# Altium integrated library Analog Devices Data Converters Analog-to-Digital Converters.IntLib: 2404 symbols (part 164 of 346)
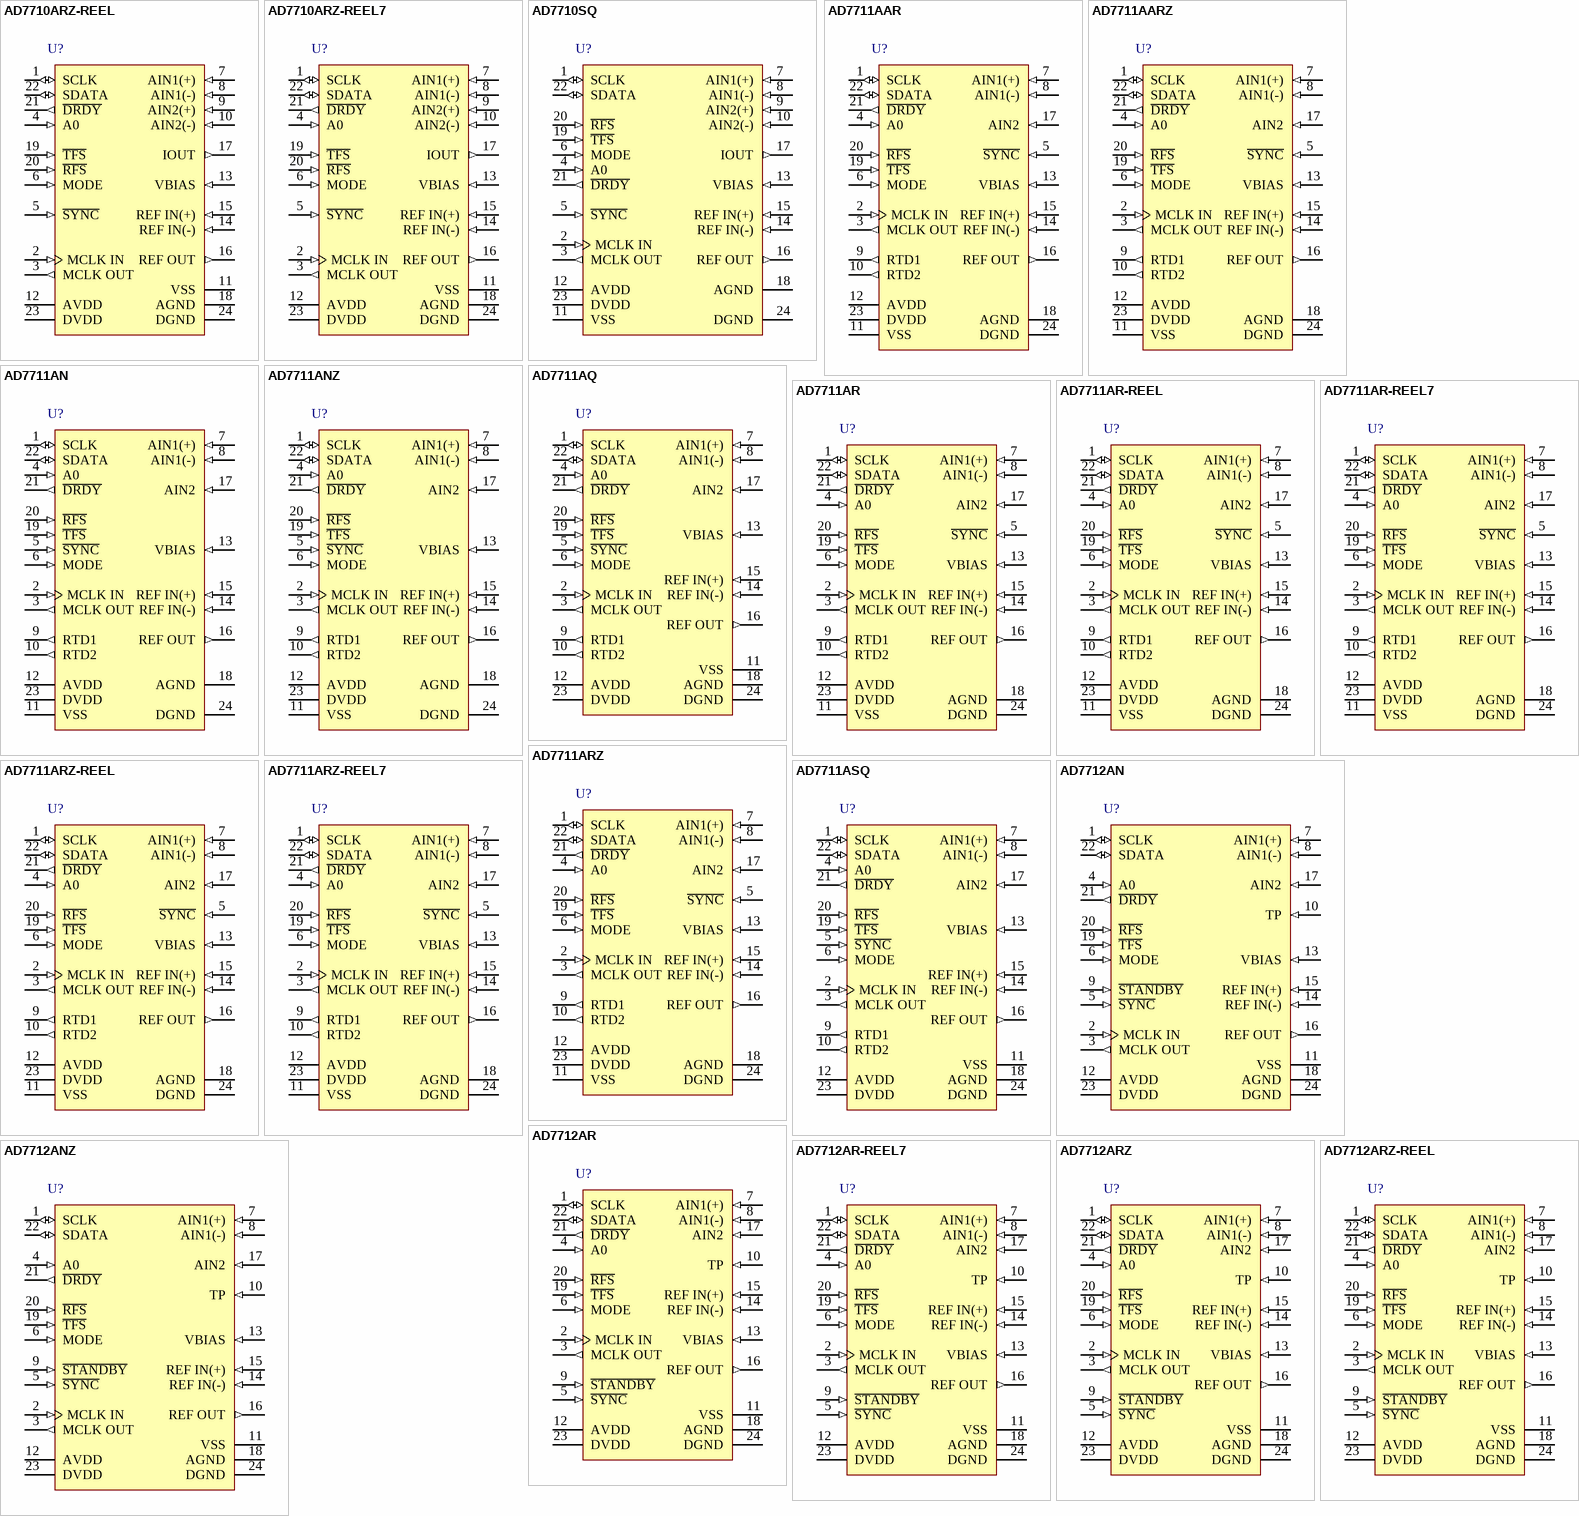
[diagram p344: symbols AD7710ARZ-REEL to AD7712ARZ-REEL]

## AD7712ARZ
designator U?
Dual 24-Bit Signal Conditioning Analog-to-Digital Converter with Serial Interface, LC2MOS, 1.028KSPS, -40 to +85 degC, RW-24, Pb-Free, Tube; Generic Part Number: AD7712; Manufacturer: Analog Devices; PartNumber: AD7712ARZ; Resolution (Bits): 24; Channels: 2; Throughput Rate (SPS): 1.028K; Interface: Ser; DatasheetVersion: Rev.F; PackageVersion: 060706-A; PackageReference: RW-24; PackageDescription: 24-Lead Standard Small Outline Package [SOIC_W]; Supplier 1: Digi-Key; Supplier Part Number 1: AD7712ARZ-ND; Supplier 2: Farnell; Supplier Part Number 2: 1438856; Supplier 3: Newark; Supplier Part Number 3: 59K5315; Supplier 4: Mouser; Supplier Part Number 4: 584-AD7712ARZ; RoHS: Y; Packing: Tube; Mounting Technology: Surface Mount; Code_JEDEC: MS-013-AD; ComponentLink1Description: Manufacturer URL; ComponentLink1URL: http://www.analog.com/en/index.html; ComponentLink2Description: Datasheet; ComponentLink2URL: http://www.analog.com/static/imported-files/data_sheets/AD7712.pdf; ComponentLink3Description: Package Specification; ComponentLink3URL: http://www.analog.com/static/imported-files/packages/33665150946139RW_24.pdf; ComponentLink4Description: Product URL; ComponentLink4URL: http://www.analog.com/en/analog-to-digital-converters/ad-converters/ad7712/products/product.html
footprint RW-24_N (SOIC, 24-Leads, Body 15.4x7.5mm, Pitch 1.27mm, IPC Medium Density)
footprint RW-24_L (SOIC, 24-Leads, Body 15.4x7.5mm, Pitch 1.27mm, IPC High Density)
footprint RW-24_M (SOIC, 24-Leads, Body 15.4x7.5mm, Pitch 1.27mm, IPC Low Density)
pins: 1 SCLK (io) "Serial Clock. Logic input/output, depending on the status of the MODE pin. When MODE is high, thedevice is in its self-clocking mode, and the SCLK pin provides a serial clock output. This SCLK becomesactive when R\F\S\ or (See Datasheet)", 2 MCLK IN (in) "Master Clock Signal for the Device. This can be provided in the form of a crystal or external clock. A crystal can be tied across the MCLK IN and MCLK OUT pins. Alternatively, the MCLK IN pin can be driven with (See Datasheet)", 3 MCLK OUT (out) "When the master clock for the device is a crystal, the crystal is connected between MCLK IN and MCLK OUT.", 4 A0 (in) "Address Input. With this input low, reading and writing to the device is to the control register. With this input high, access is to either the data register or the calibration registers.", 5 ~{SYNC} (in) "Logic Input. Allows for synchronization of the digital filters when using a number of AD7712s. It resetsthe nodes of the digital filter.", 6 MODE (in) "Logic Input. When this pin is high, the device is in its self-clocking mode. With this pin low, the device is inexternal clocking mode.", 7 AIN1(+) (in) "Analog Input Channel 1. Positive input of the programmable gain differential analog input. The AIN1(+) input is connected to an output current source that can be used to check that an external transducer has burned out or (See Datasheet)", 8 AIN1(-) (in) "Analog Input Channel 1. Negative input of the programmable gain differential analog input.", 9 ~{STANDBY} (in) "Logic Input. Taking this pin low shuts down the internal analog and digital circuitry, reducing power consumption to less than 50 uW.", 10 TP (in) "Test Pin. Used when testing the device. Do not connect anything to this pin.", 11 VSS (power) "Analog Negative Supply, 0 V to -5 V. Tied to AGND for single-supply operation. The input voltage on AIN1 should not go > 30 mV negative w.r.t. VSS for correct operation of the device.", 12 AVDD (power) "Analog Positive Supply Voltage, 5 V to 10 V.", 13 VBIAS (in) "Input Bias Voltage. This input voltage should be set such that VBIAS + 0.85 _ VREF < AVDD and VBIAS - 0.85_ VREF > VSS where VREF is REF IN(+) - REF IN(-). Ideally, this should be tied halfway between AVDDand VSS. Thus, with (See Datasheet)", 14 REF IN(-) (in) "Reference Input. The REF IN(-) can lie anywhere between AVDD and VSS provided REF IN(+) is greaterthan REF IN(-).", 15 REF IN(+) (in) "Reference Input. The reference input is differential providing that REF IN(+) is greater than REF IN(-).REF IN(+) can lie anywhere between AVDD and VSS.", 16 REF OUT (out) "Reference Output. The internal 2.5 V reference is provided at this pin. This is a single-ended outputthat is referred to AGND.", 17 AIN2 (in) "Analog Input Channel 2. High level analog input that accepts an analog input voltage range of +/-4 _VREF/GAIN. At the nominal VREF of +2.5 V and a gain of 1, the AIN2 input voltage range is +/-10 V.", 18 AGND (power) "Ground Reference Point for Analog Circuitry.", 19 ~{TFS} (in) "Transmit Frame Synchronization. Active low logic input used to write serial data to the device with serial data expected after the falling edge of this pulse. In the self-clocking mode, the serial clock becomes active after (See Datasheet)", 20 ~{RFS} (in) "Receive Frame Synchronization. Active low logic input used to access serial data from the device. In the self-clocking mode, both the SCLK and SDATA lines become active after R\F\S\ goes low. In the external clocking mode, (See Datasheet)", 21 ~{DRDY} (out) "Logic Output. A falling edge indicates that a new output word is available for transmission. The D\R\D\Y\ pin will return high upon completion of transmission of a full output word. D\R\D\Y\ is also used to indicate when the (See Datasheet)", 22 SDATA (io) "Serial Data . Input/output with serial data being written to either the control register or the calibration registers and serial data being accessed from the control register, calibration registers, or the data register. (See Datasheet)", 23 DVDD (power) "Digital Supply Voltage, 5 V. DVDD should not exceed AVDD by more than 0.3 V in normal operation", 24 DGND (power) "Ground Reference Point for Digital Circuitry."

## AD7712ARZ-REEL
designator U?
Dual 24-Bit Signal Conditioning Analog-to-Digital Converter with Serial Interface, LC2MOS, 1.028KSPS, -40 to +85 degC, RW-24, Pb-Free, Reel; Generic Part Number: AD7712; Manufacturer: Analog Devices; PartNumber: AD7712ARZ-REEL; Resolution (Bits): 24; Channels: 2; Throughput Rate (SPS): 1.028K; Interface: Ser; DatasheetVersion: Rev.F; PackageVersion: 060706-A; PackageReference: RW-24; PackageDescription: 24-Lead Standard Small Outline Package [SOIC_W]; Supplier 1: Digi-Key; Supplier Part Number 1: AD7712ARZ-REEL-ND; Supplier 2: Mouser; Supplier Part Number 2: 584-AD7712ARZ-R; RoHS: Y; Packing: Reel; Mounting Technology: Surface Mount; Code_JEDEC: MS-013-AD; ComponentLink1Description: Manufacturer URL; ComponentLink1URL: http://www.analog.com/en/index.html; ComponentLink2Description: Datasheet; ComponentLink2URL: http://www.analog.com/static/imported-files/data_sheets/AD7712.pdf; ComponentLink3Description: Package Specification; ComponentLink3URL: http://www.analog.com/static/imported-files/packages/33665150946139RW_24.pdf; ComponentLink4Description: Product URL; ComponentLink4URL: http://www.analog.com/en/analog-to-digital-converters/ad-converters/ad7712/products/product.html
footprint RW-24_N (SOIC, 24-Leads, Body 15.4x7.5mm, Pitch 1.27mm, IPC Medium Density)
footprint RW-24_L (SOIC, 24-Leads, Body 15.4x7.5mm, Pitch 1.27mm, IPC High Density)
footprint RW-24_M (SOIC, 24-Leads, Body 15.4x7.5mm, Pitch 1.27mm, IPC Low Density)
pins: 1 SCLK (io) "Serial Clock. Logic input/output, depending on the status of the MODE pin. When MODE is high, thedevice is in its self-clocking mode, and the SCLK pin provides a serial clock output. This SCLK becomesactive when R\F\S\ or (See Datasheet)", 2 MCLK IN (in) "Master Clock Signal for the Device. This can be provided in the form of a crystal or external clock. A crystal can be tied across the MCLK IN and MCLK OUT pins. Alternatively, the MCLK IN pin can be driven with (See Datasheet)", 3 MCLK OUT (out) "When the master clock for the device is a crystal, the crystal is connected between MCLK IN and MCLK OUT.", 4 A0 (in) "Address Input. With this input low, reading and writing to the device is to the control register. With this input high, access is to either the data register or the calibration registers.", 5 ~{SYNC} (in) "Logic Input. Allows for synchronization of the digital filters when using a number of AD7712s. It resetsthe nodes of the digital filter.", 6 MODE (in) "Logic Input. When this pin is high, the device is in its self-clocking mode. With this pin low, the device is inexternal clocking mode.", 7 AIN1(+) (in) "Analog Input Channel 1. Positive input of the programmable gain differential analog input. The AIN1(+) input is connected to an output current source that can be used to check that an external transducer has burned out or (See Datasheet)", 8 AIN1(-) (in) "Analog Input Channel 1. Negative input of the programmable gain differential analog input.", 9 ~{STANDBY} (in) "Logic Input. Taking this pin low shuts down the internal analog and digital circuitry, reducing power consumption to less than 50 uW.", 10 TP (in) "Test Pin. Used when testing the device. Do not connect anything to this pin.", 11 VSS (power) "Analog Negative Supply, 0 V to -5 V. Tied to AGND for single-supply operation. The input voltage on AIN1 should not go > 30 mV negative w.r.t. VSS for correct operation of the device.", 12 AVDD (power) "Analog Positive Supply Voltage, 5 V to 10 V.", 13 VBIAS (in) "Input Bias Voltage. This input voltage should be set such that VBIAS + 0.85 _ VREF < AVDD and VBIAS - 0.85_ VREF > VSS where VREF is REF IN(+) - REF IN(-). Ideally, this should be tied halfway between AVDDand VSS. Thus, with (See Datasheet)", 14 REF IN(-) (in) "Reference Input. The REF IN(-) can lie anywhere between AVDD and VSS provided REF IN(+) is greaterthan REF IN(-).", 15 REF IN(+) (in) "Reference Input. The reference input is differential providing that REF IN(+) is greater than REF IN(-).REF IN(+) can lie anywhere between AVDD and VSS.", 16 REF OUT (out) "Reference Output. The internal 2.5 V reference is provided at this pin. This is a single-ended outputthat is referred to AGND.", 17 AIN2 (in) "Analog Input Channel 2. High level analog input that accepts an analog input voltage range of +/-4 _VREF/GAIN. At the nominal VREF of +2.5 V and a gain of 1, the AIN2 input voltage range is +/-10 V.", 18 AGND (power) "Ground Reference Point for Analog Circuitry.", 19 ~{TFS} (in) "Transmit Frame Synchronization. Active low logic input used to write serial data to the device with serial data expected after the falling edge of this pulse. In the self-clocking mode, the serial clock becomes active after (See Datasheet)", 20 ~{RFS} (in) "Receive Frame Synchronization. Active low logic input used to access serial data from the device. In the self-clocking mode, both the SCLK and SDATA lines become active after R\F\S\ goes low. In the external clocking mode, (See Datasheet)", 21 ~{DRDY} (out) "Logic Output. A falling edge indicates that a new output word is available for transmission. The D\R\D\Y\ pin will return high upon completion of transmission of a full output word. D\R\D\Y\ is also used to indicate when the (See Datasheet)", 22 SDATA (io) "Serial Data . Input/output with serial data being written to either the control register or the calibration registers and serial data being accessed from the control register, calibration registers, or the data register. (See Datasheet)", 23 DVDD (power) "Digital Supply Voltage, 5 V. DVDD should not exceed AVDD by more than 0.3 V in normal operation", 24 DGND (power) "Ground Reference Point for Digital Circuitry."

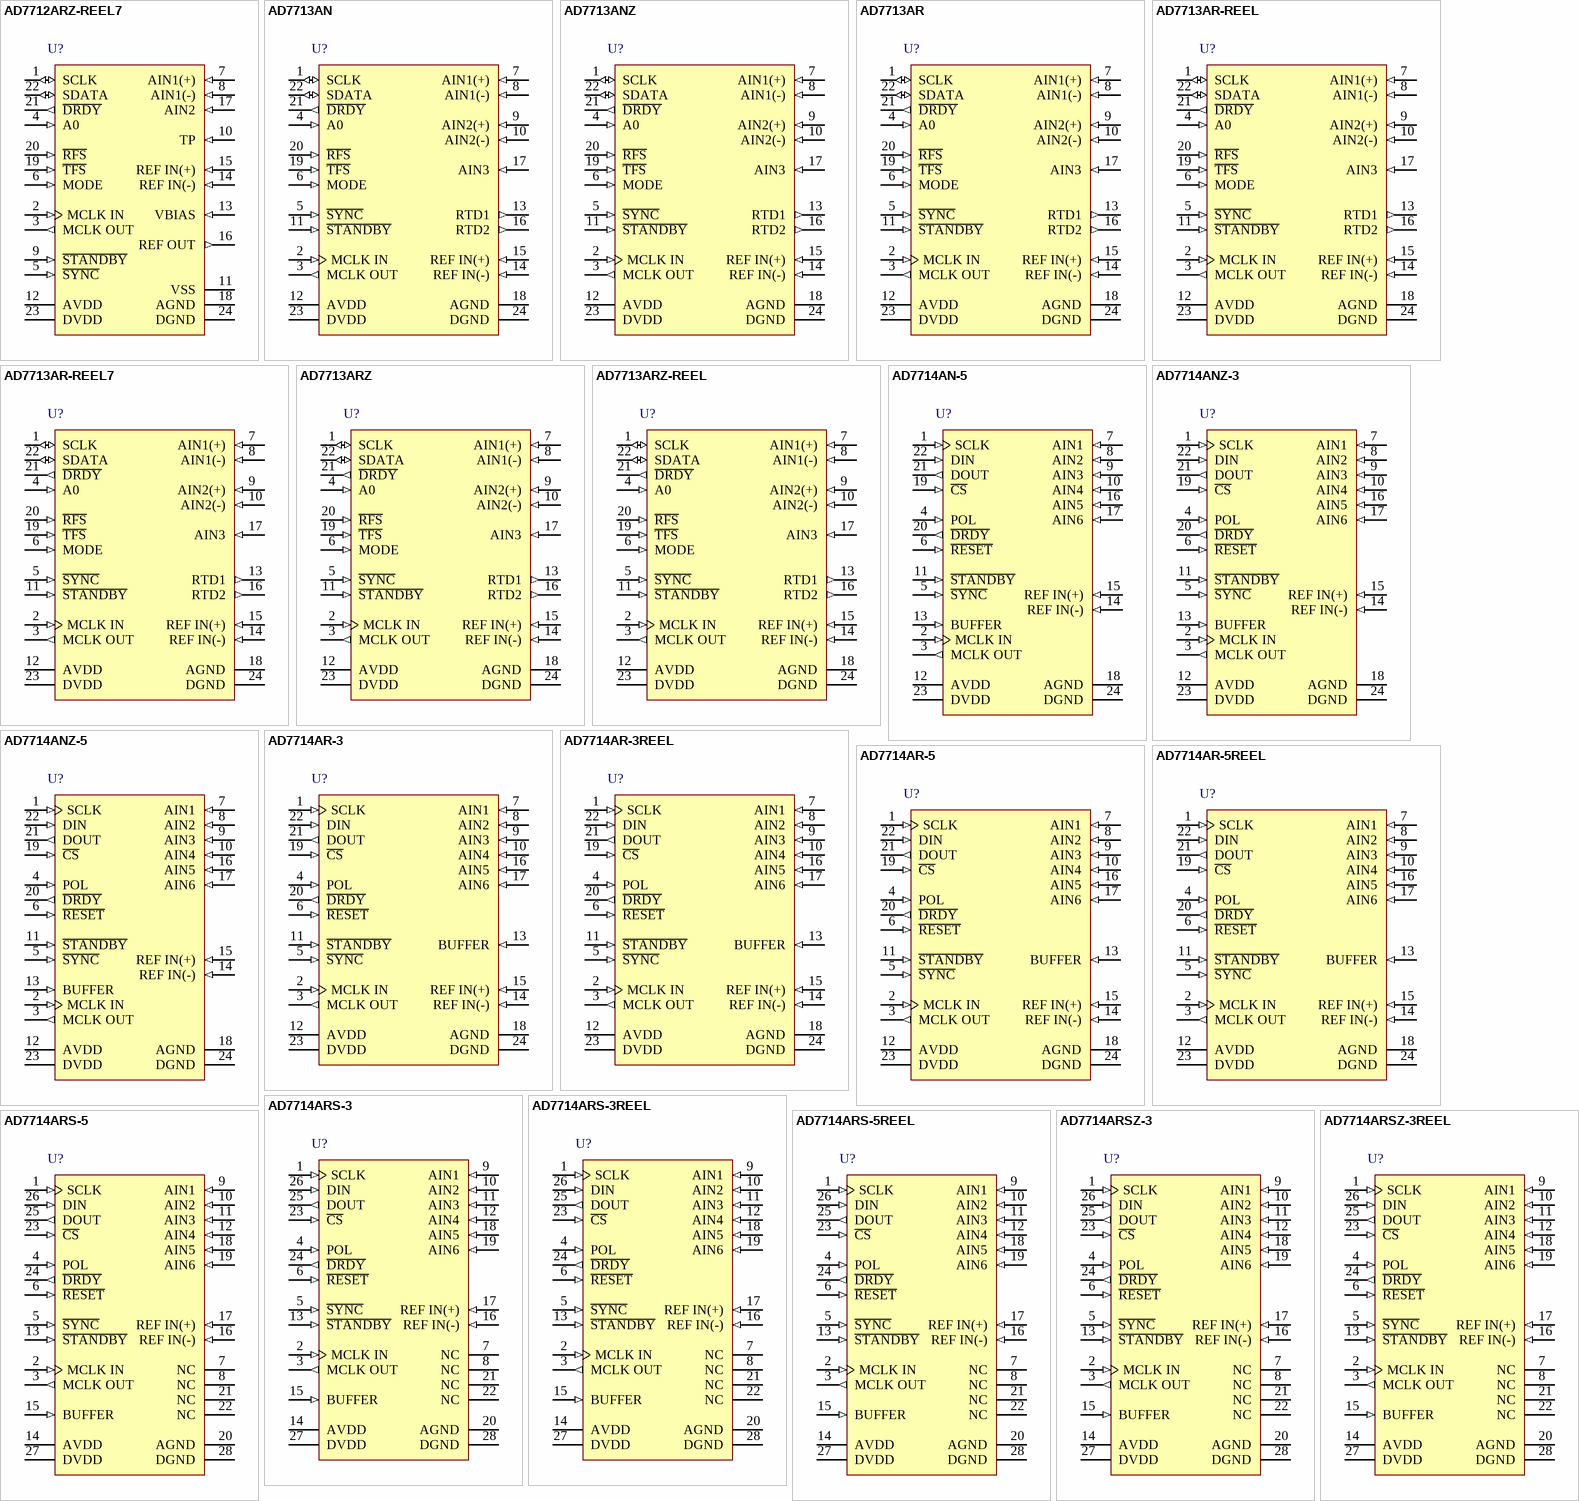
[diagram p51: symbols AD7712ARZ-REEL7 to AD7714ARSZ-3REEL]